# EAGLE library part USB2412 (library ICs)
USB Hub Controller USB 2.0 USB Interface 28-QFN
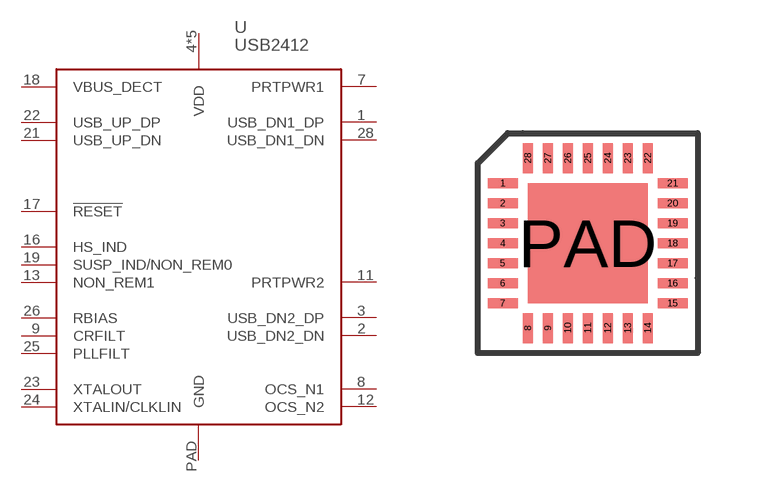
[diagram p241: symbol with the pads of QFN28-3.1EPAD; footprint QFN28-3.1EPAD]

Designator prefix U

## USB2412 (DIGIKEY: 638-1114-ND; HEIGHT: 1; PRICE_PER: 1.39; VALUE: 2 PORT HUB)  [QFN28-3.1EPAD]
1  USB_DN1_DP
2  USB_DN2_DN
3  USB_DN2_DP
4  VDD
7  PRTPWR1
8  OCS_N1
9  CRFILT
10  VDD
11  PRTPWR2
12  OCS_N2
13  NON_REM1
14  VDD
16  HS_IND
17  !RESET
18  VBUS_DECT
19  SUSP_IND/NON_REM0
20  VDD
21  USB_UP_DN
22  USB_UP_DP
23  XTALOUT
24  XTALIN/CLKLIN
25  PLLFILT
26  RBIAS
27  VDD
28  USB_DN1_DN
PAD  GND

## Footprint QFN28-3.1EPAD (pad centres in mm)
smd 0.75 x 0.25: 1 -2.125,1.5; 2 -2.125,1; 3 -2.125,0.5; 4 -2.125,0; 5 -2.125,-0.5; 6 -2.125,-1; 7 -2.125,-1.5; 15 2.125,-1.5; 16 2.125,-1; 17 2.125,-0.5; 18 2.125,0; 19 2.125,0.5; 20 2.125,1; 21 2.125,1.5
smd 0.25 x 0.75: 8 -1.5,-2.125; 9 -1,-2.125; 10 -0.5,-2.125; 11 0,-2.125; 12 0.5,-2.125; 13 1,-2.125; 14 1.5,-2.125; 22 1.5,2.125; 23 1,2.125; 24 0.5,2.125; 25 0,2.125; 26 -0.5,2.125; 27 -1,2.125; 28 -1.5,2.125
smd 3 x 3: PAD 0,0